# EAGLE library part _OLD_PINAV-L1 (library Cubesat)
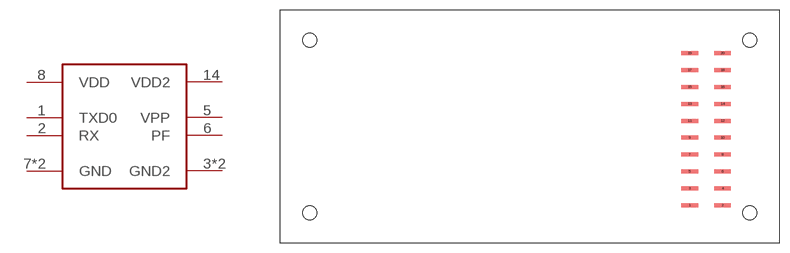
[diagram p3: symbol with the pads of _OLD_PINAV-L1; footprint _OLD_PINAV-L1]

Designator prefix -

## _OLD_PINAV-L1  [_OLD_PINAV-L1]
1  TXD0
2  RX
3  GND2
5  VPP
6  PF
7  GND
8  VDD
14  VDD2
15  GND2
16  GND

## Footprint _OLD_PINAV-L1 (pad centres in mm)
smd 2.5 x 0.6: 1 24.61,-11.55; 2 29.55,-11.55; 3 24.61,-9.01; 4 29.55,-9.01; 5 24.61,-6.47; 6 29.55,-6.47; 7 24.61,-3.93; 8 29.55,-3.93; 9 24.61,-1.39; 10 29.55,-1.39; 11 24.61,1.15; 12 29.55,1.15; 13 24.61,3.69; 14 29.55,3.69; 15 24.61,6.23; 16 29.55,6.23; 17 24.61,8.77; 18 29.55,8.77; 19 24.61,11.31; 20 29.55,11.31
hole 2.1 at -32.42,-12.7
hole 2.1 at 33.58,-12.7
hole 2.1 at -32.42,13.3
hole 2.1 at 33.58,13.3